# EAGLE library part 4X2.2MM (library std.headers)
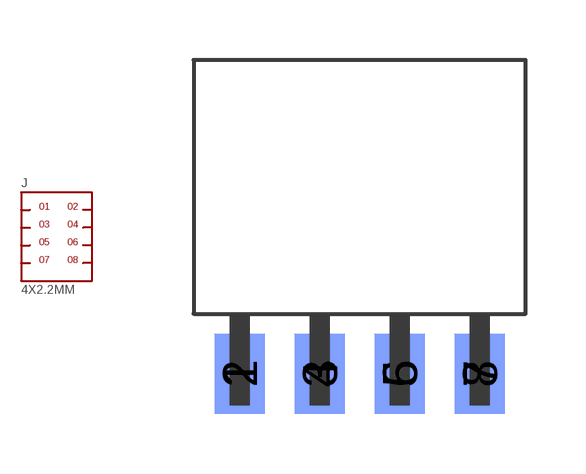
[diagram p0: symbol with the pads of 4X2.2MM.2.29MM.SIDE; footprint 4X2.2MM.2.29MM.SIDE]

Designator prefix J

## 4X2.2MM.SIDE  [4X2.2MM.2.29MM.SIDE]
1  1
2  2
3  3
4  4
5  5
6  6
7  7
8  8

## Footprint 4X2.2MM.2.29MM.SIDE (pad centres in mm)
smd 1.25 x 2: 1 -3,-1.5; 3 -1,-1.5; 5 1,-1.5; 7 3,-1.5
smd 1.25 x 2 bottom: 2 -3,-1.5; 4 -1,-1.5; 6 1,-1.5; 8 3,-1.5